# Altium schematic symbol library UWE_S-3WR3.SchLib: 1 symbol
Pins are listed as number, name and electrical type; pins without a type are passive.

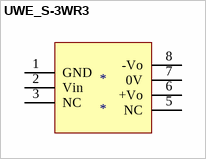
[diagram p0: symbol UWE_S-3WR3 ]

## UWE_S-3WR3 
designator *
pins: 1 GND, 2 Vin, 3 NC, 5 NC, 6 +Vo, 7 0V, 8 -Vo